# Altium schematic symbol library INA181A4IDBVR.SchLib: 2 symbols
Pins are listed as number, name and electrical type; pins without a type are passive.

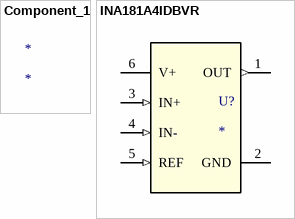
[diagram p0: symbols Component_1 to INA181A4IDBVR]

## Component_1
designator *

## INA181A4IDBVR
designator U?
No Description Available; PartNumber: INA181A1IDBVR; Manufacturer: Texas Instruments; RefDes: RefDes; Type: DEV; Value: Value; Copyright: Copyright (C) 2018 Accelerated Designs. All rights reserved
footprint DBV0006A_N
pins: 1 OUT (out), 2 GND (power), 3 IN+ (in), 4 IN- (in), 5 REF (in), 6 V+ (power)